# Altium schematic symbol library SCH_IntegratedCircuit.SchLib: 38 symbols
Pins are listed as number, name and electrical type; pins without a type are passive.

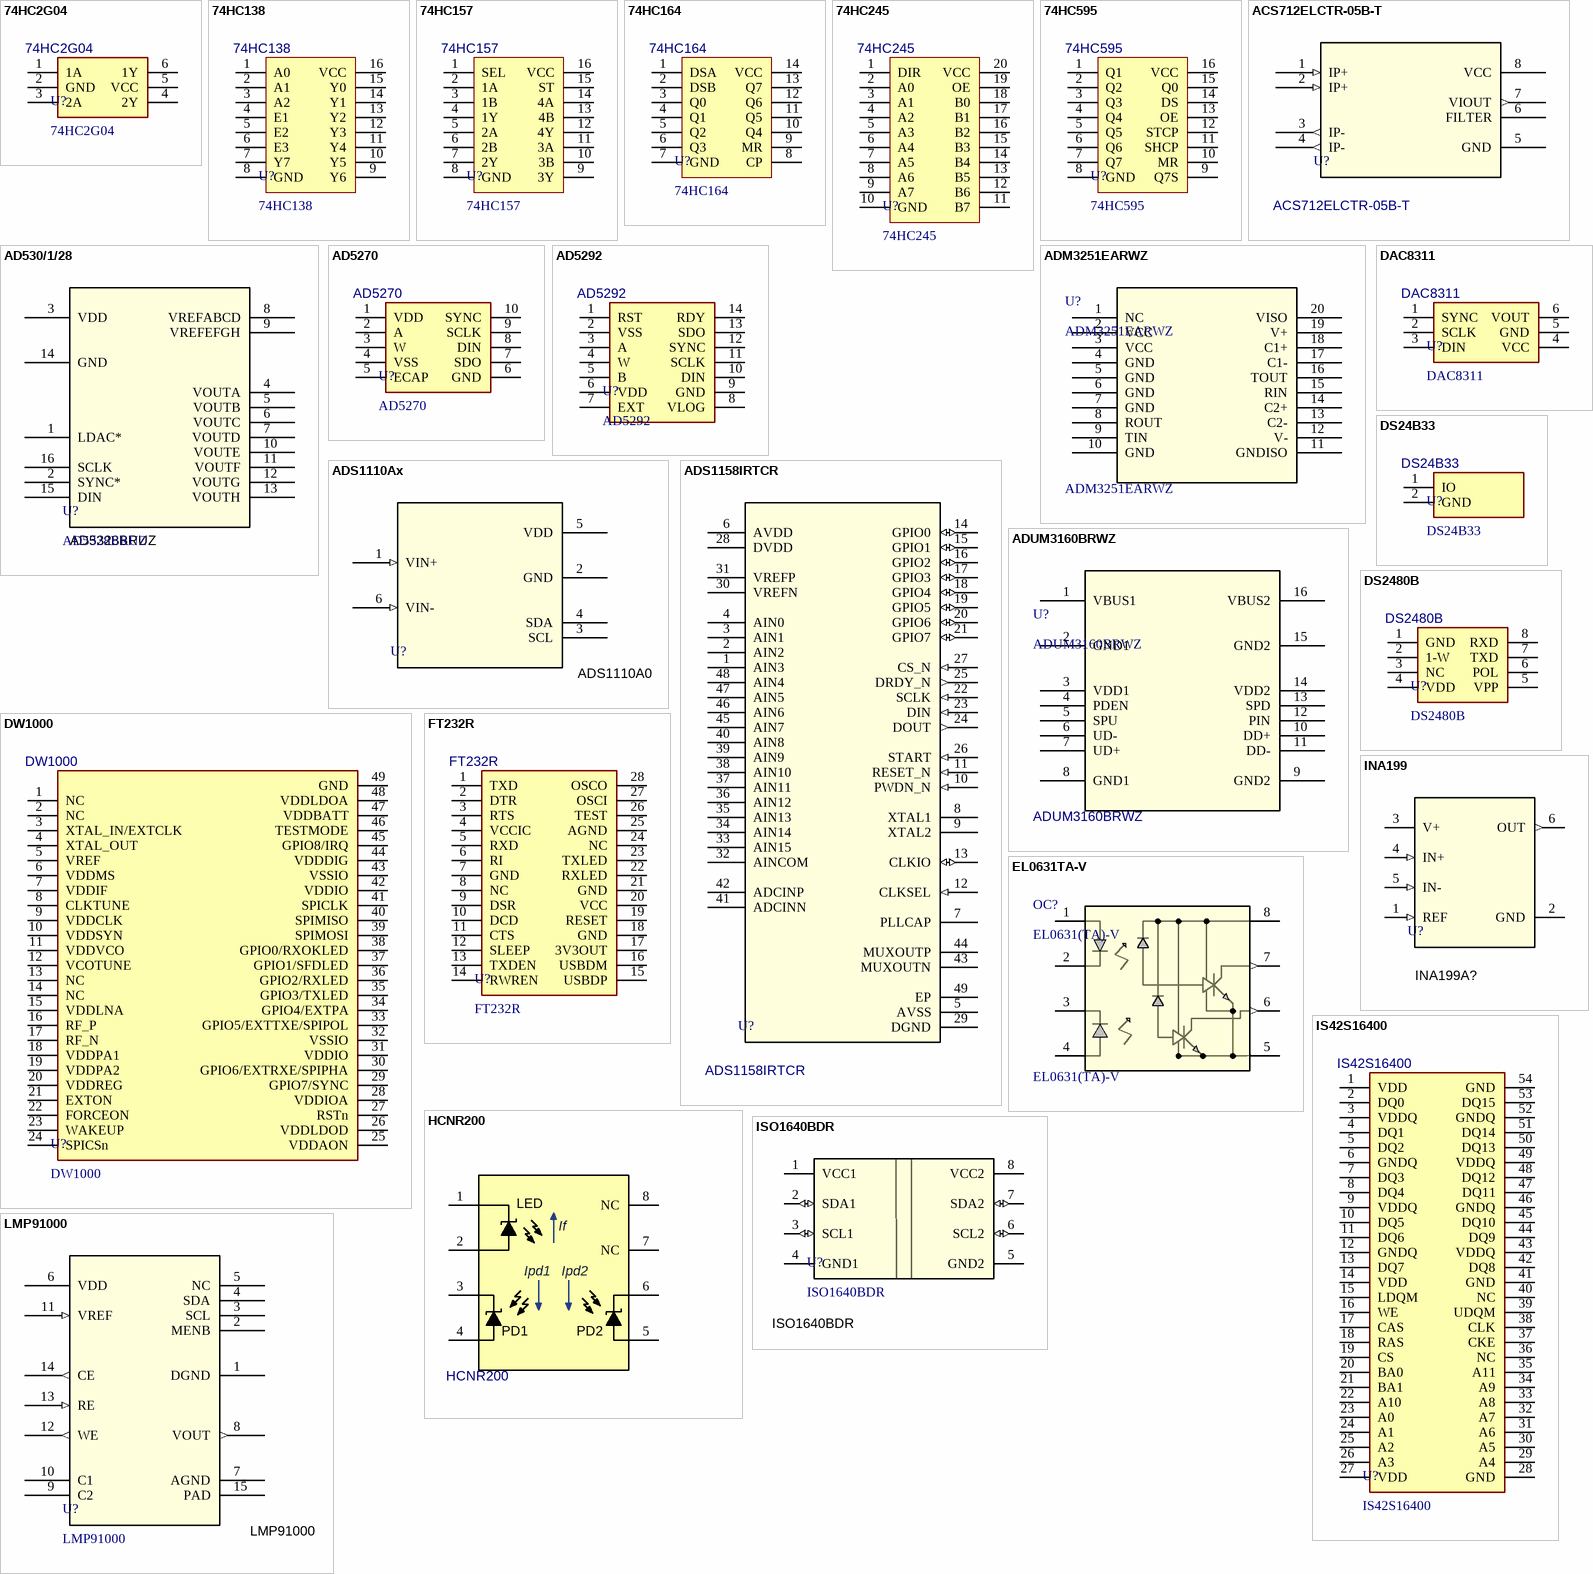
[diagram p0: symbols 74HC2G04 to LMP91000]

## 74HC2G04
designator U?
74 Series; Package: SOT363-6; PartNumber: 74HC2G04
footprint SOT363-6
pins: 1 1A, 2 GND, 3 2A, 4 2Y, 5 VCC, 6 1Y

## 74HC138
designator U?
74 Series; PartNumber: 74HC138
footprint SOP_E150_16
pins: 1 A0, 2 A1, 3 A2, 4 E1, 5 E2, 6 E3, 7 Y7, 8 GND, 9 Y6, 10 Y5, 11 Y4, 12 Y3, 13 Y2, 14 Y1, 15 Y0, 16 VCC

## 74HC157
designator U?
74 Series; PartNumber: 74HC157
footprint SOP_E150_16
pins: 1 SEL, 2 1A, 3 1B, 4 1Y, 5 2A, 6 2B, 7 2Y, 8 GND, 9 3Y, 10 3B, 11 3A, 12 4Y, 13 4B, 14 4A, 15 ST, 16 VCC

## 74HC164
designator U?
74 Series; PartNumber: 74HC164
footprint SOP_E150_14
pins: 1 DSA, 2 DSB, 3 Q0, 4 Q1, 5 Q2, 6 Q3, 7 GND, 8 CP, 9 MR, 10 Q4, 11 Q5, 12 Q6, 13 Q7, 14 VCC

## 74HC245
designator U?
74 Series; PartNumber: 74HC245
footprint SOP_E300_20
pins: 1 DIR, 2 A0, 3 A1, 4 A2, 5 A3, 6 A4, 7 A5, 8 A6, 9 A7, 10 GND, 11 B7, 12 B6, 13 B5, 14 B4, 15 B3, 16 B2, 17 B1, 18 B0, 19 OE, 20 VCC

## 74HC595
designator U?
74 Series; PartNumber: 74HC595
footprint SOP_E150_16
pins: 1 Q1, 2 Q2, 3 Q3, 4 Q4, 5 Q5, 6 Q6, 7 Q7, 8 GND, 9 Q7S, 10 MR, 11 SHCP, 12 STCP, 13 OE, 14 DS, 15 Q0, 16 VCC

## ACS712ELCTR-05B-T
designator U?
No Description Available; Mfr_Name: Allegro Microsystems Inc.; Package: SOIC8; PartNumber: ACS712ELCTR-05B-T
footprint SOP_E150_8
pins: 1 IP+ (in), 2 IP+ (in), 3 IP- (out), 4 IP- (out), 5 GND (power), 6 FILTER, 7 VIOUT (out), 8 VCC (power)

## AD530/1/28
designator U?, comment AD5328BRUZ
ADI DAC; Mfr_Name: Analog Devices Inc; Package: TSSOP-16; PartNumber: AD5328BRUZ
footprint TSSOP_E170_P0.65_16
pins: 1 LDAC*, 2 SYNC*, 3 VDD (power), 4 VOUTA, 5 VOUTB, 6 VOUTC, 7 VOUTD, 8 VREFABCD, 9 VREFEFGH, 10 VOUTE, 11 VOUTF, 12 VOUTG, 13 VOUTH, 14 GND, 15 DIN, 16 SCLK

## AD5270
designator U?
Digital Pot; PartNumber: AD5270
footprint MS5611
pins: 1 VDD, 2 A, 3 W, 4 VSS, 5 ECAP, 6 GND, 7 SDO, 8 DIN, 9 SCLK, 10 SYNC

## AD5292
designator U?
Digital Pot; PartNumber: AD5292
footprint TSSOP_E170_P0.65_14
pins: 1 RST, 2 VSS, 3 A, 4 W, 5 B, 6 VDD, 7 EXT, 8 VLOG, 9 GND, 10 DIN, 11 SCLK, 12 SYNC, 13 SDO, 14 RDY

## ADM3251EARWZ
designator U?
RS232 Isolator; Mfr_Name: Analog Devices Inc; Package: RW-20-ADI; PartNumber: ADM3251EARWZ
footprint RW_20_ADI
pins: 1 NC, 2 VCC, 3 VCC, 4 GND, 5 GND, 6 GND, 7 GND, 8 ROUT, 9 TIN, 10 GND, 11 GNDISO, 12 V-, 13 C2-, 14 C2+, 15 RIN, 16 TOUT, 17 C1-, 18 C1+, 19 V+, 20 VISO

## ADS1110Ax
designator U?, comment ADS1110A0
ADC; Mfr_Name: Texas Instruments; Package: SOT-23-6; PartNumber: ADS1110A0
footprint SOT23-6
pins: 1 VIN+ (in), 2 GND (power), 3 SCL, 4 SDA, 5 VDD (power), 6 VIN- (in)

## ADS1158IRTCR
designator U?
ADC; Mfr_Name: Texas Instruments; Package: RTC (S-PVQFN-N48); PartNumber: ADS1158IRTCR
footprint QFN_P0.5_48_EP_7X7
pins: 1 AIN3, 2 AIN2, 3 AIN1, 4 AIN0, 5 AVSS (power), 6 AVDD (power), 7 PLLCAP, 8 XTAL1, 9 XTAL2, 10 PWDN_N (in), 11 RESET_N (in), 12 CLKSEL (in), 13 CLKIO (io), 14 GPIO0 (io), 15 GPIO1 (io), 16 GPIO2 (io), 17 GPIO3 (io), 18 GPIO4 (io), 19 GPIO5 (io), 20 GPIO6 (io), 21 GPIO7 (io), 22 SCLK (in), 23 DIN (in), 24 DOUT (out), 25 DRDY_N (out), 26 START (in), 27 CS_N (in), 28 DVDD (power), 29 DGND (power), 30 VREFN, 31 VREFP, 32 AINCOM, 33 AIN15, 34 AIN14, 35 AIN13, 36 AIN12, 37 AIN11, 38 AIN10, 39 AIN9, 40 AIN8, 41 ADCINN, 42 ADCINP, 43 MUXOUTN, 44 MUXOUTP, 45 AIN7, 46 AIN6, 47 AIN5, 48 AIN4, 49 EP

## ADUM3160BRWZ
designator U?
USB隔离器; Mfr_Name: Analog Devices Inc; Package: RW_16_ADI; PartNumber: ADUM3160BRWZ
footprint RW_16_ADI-M
pins: 1 VBUS1, 2 GND1, 3 VDD1, 4 PDEN, 5 SPU, 6 UD-, 7 UD+, 8 GND1, 9 GND2, 10 DD+, 11 DD-, 12 PIN, 13 SPD, 14 VDD2, 15 GND2, 16 VBUS2

## DAC8311
designator U?
DAC; PartNumber: DAC8311
footprint SOT363-6
pins: 1 SYNC, 2 SCLK, 3 DIN, 4 VCC, 5 GND, 6 VOUT

## DS24B33
designator U?
EEPROM; PartNumber: DS24B33
footprint SFN_6x6_2
pins: 1 IO, 2 GND

## DS2480B
designator U?
Serial to 1-Wire; PartNumber: DS2480B
footprint SOP_E150_8
pins: 1 GND, 2 1-W, 3 NC, 4 VDD, 5 VPP, 6 POL, 7 TXD, 8 RXD

## DW1000
designator U?
UWB; Package: QFN48 P0.4; PartNumber: DW1000
footprint QFN_P0.4_48_DW1000
pins: 1 NC, 2 NC, 3 XTAL_IN/EXTCLK, 4 XTAL_OUT, 5 VREF, 6 VDDMS, 7 VDDIF, 8 CLKTUNE, 9 VDDCLK, 10 VDDSYN, 11 VDDVCO, 12 VCOTUNE, 13 NC, 14 NC, 15 VDDLNA, 16 RF_P, 17 RF_N, 18 VDDPA1, 19 VDDPA2, 20 VDDREG, 21 EXTON, 22 FORCEON, 23 WAKEUP, 24 SPICSn, 25 VDDAON, 26 VDDLDOD, 27 RSTn, 28 VDDIOA, 29 GPIO7/SYNC, 30 GPIO6/EXTRXE/SPIPHA, 31 VDDIO, 32 VSSIO, 33 GPIO5/EXTTXE/SPIPOL, 34 GPIO4/EXTPA, 35 GPIO3/TXLED, 36 GPIO2/RXLED, 37 GPIO1/SFDLED, 38 GPIO0/RXOKLED, 39 SPIMOSI, 40 SPIMISO, 41 SPICLK, 42 VDDIO, 43 VSSIO, 44 VDDDIG, 45 GPIO8/IRQ, 46 TESTMODE, 47 VDDBATT, 48 VDDLDOA, 49 GND

## EL0631TA-V
designator OC?, comment EL0631(TA)-V
Optical Coupler Logic Output x2; Mfr_Name: Everlight; Package: SOIC-8; PartNumber: EL0631(TA)-V
footprint SOP_E150_8
pins: 1, 2, 3, 4, 5 (power), 6 (out), 7 (out), 8 (power)

## FT232R
designator U?
USB2UART; PartNumber: FT232R
footprint SSOP_E210_P0.65_28
pins: 1 TXD, 2 DTR, 3 RTS, 4 VCCIC, 5 RXD, 6 RI, 7 GND, 8 NC, 9 DSR, 10 DCD, 11 CTS, 12 SLEEP, 13 TXDEN, 14 RWREN, 15 USBDP, 16 USBDM, 17 3V3OUT, 18 GND, 19 RESET, 20 VCC, 21 GND, 22 RXLED, 23 TXLED, 24 NC, 25 AGND, 26 TEST, 27 OSCI, 28 OSCO

## HCNR200
designator U?
高线性光耦; Mfr_Name: Mfr; Package: SOP-8-2.54mm; PartNumber: HCNR200
footprint SOP_P2.54mm_8
pins: 1, 2, 3, 4, 5, 6, 7 NC, 8 NC
text: LED; If; Ipd1; Ipd2; PD1; PD2

## INA199
designator U?, comment INA199A?
current-sense amplifier; Mfr_Name: Texas Instruments; Package: SOT-363(SC-70-6); PartNumber: INA199A?
footprint SOT363-6
pins: 1 REF (in), 2 GND (power), 3 V+ (power), 4 IN+ (in), 5 IN- (in), 6 OUT (out)

## IS42S16400
designator U?
SDRAM; PartNumber: IS42S16400
footprint TSOP_E400_P0.8_54
pins: 1 VDD, 2 DQ0, 3 VDDQ, 4 DQ1, 5 DQ2, 6 GNDQ, 7 DQ3, 8 DQ4, 9 VDDQ, 10 DQ5, 11 DQ6, 12 GNDQ, 13 DQ7, 14 VDD, 15 LDQM, 16 WE, 17 CAS, 18 RAS, 19 CS, 20 BA0, 21 BA1, 22 A10, 23 A0, 24 A1, 25 A2, 26 A3, 27 VDD, 28 GND, 29 A4, 30 A5, 31 A6, 32 A7, 33 A8, 34 A9, 35 A11, 36 NC, 37 CKE, 38 CLK, 39 UDQM, 40 NC, 41 GND, 42 DQ8, 43 VDDQ, 44 DQ9, 45 DQ10, 46 GNDQ, 47 DQ11, 48 DQ12, 49 VDDQ, 50 DQ13, 51 DQ14, 52 GNDQ, 53 DQ15, 54 GND

## ISO1640BDR
designator U?
I2C Isolator; Mfr_Name: Texas Instruments; Package: SOIC-8; PartNumber: ISO1640BDR
footprint SOIC-8_150mil
pins: 1 VCC1 (power), 2 SDA1 (io), 3 SCL1 (io), 4 GND1 (power), 5 GND2 (power), 6 SCL2 (io), 7 SDA2 (io), 8 VCC2 (power)

## LMP91000
designator U?
EC Sensor AFE; Mfr_Name: Texas Instruments; Package: WSON-14; PartNumber: LMP91000
footprint WSON-14-EP(4x4)
pins: 1 DGND (power), 2 MENB, 3 SCL, 4 SDA, 5 NC, 6 VDD (power), 7 AGND (power), 8 VOUT (out), 9 C2, 10 C1, 11 VREF (in), 12 WE (out), 13 RE (in), 14 CE (out), 15 PAD

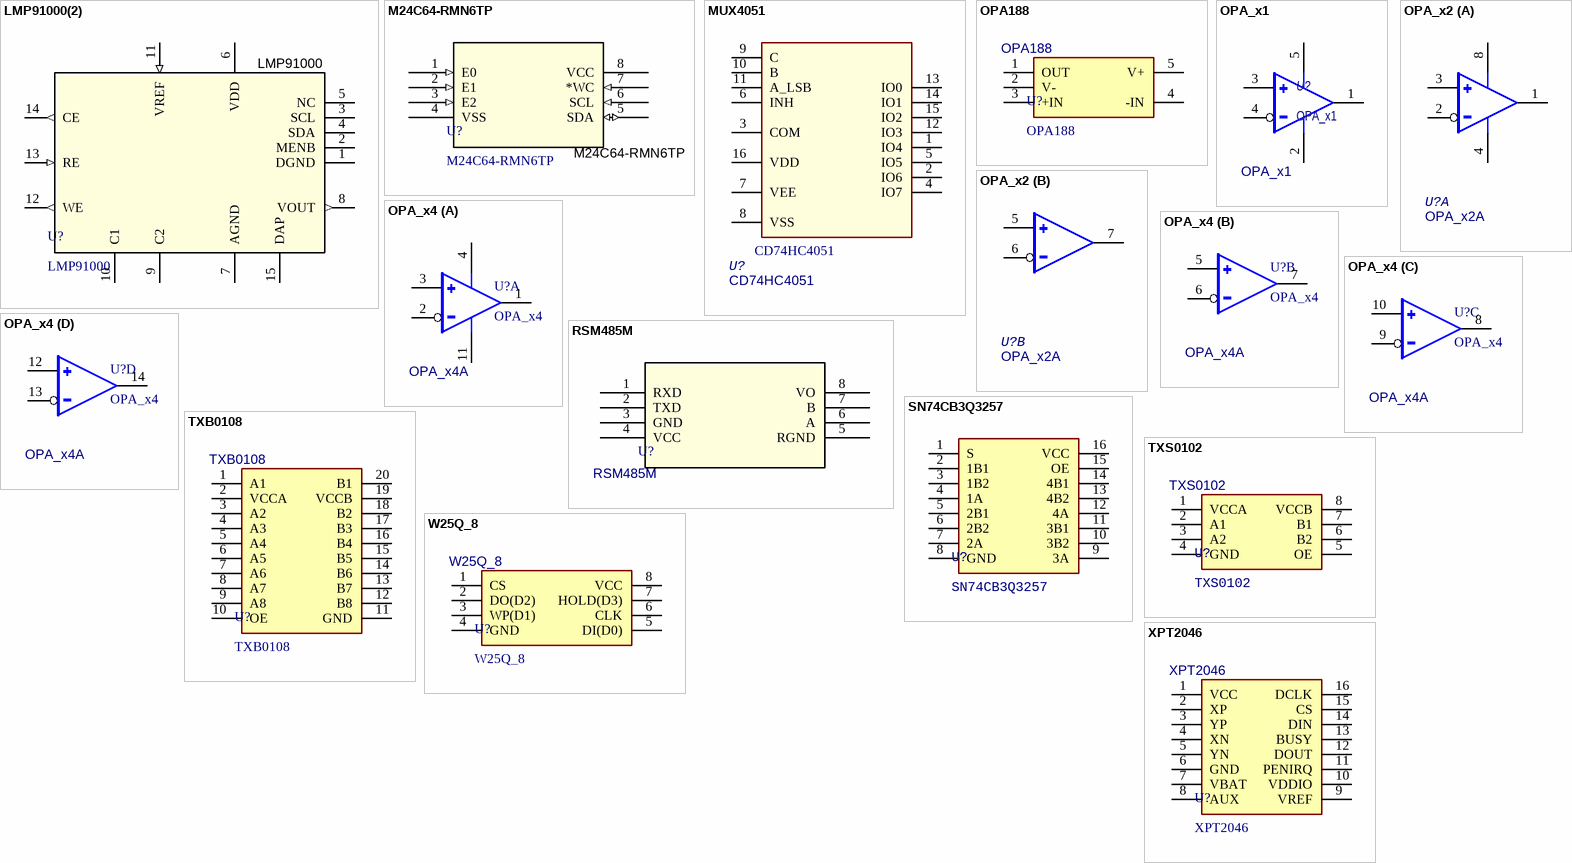
[diagram p1: symbols LMP91000(2) to XPT2046]

## LMP91000(2)
designator U?, comment LMP91000
AFE; Mfr_Name: Texas Instruments; Package: WSON-14-EP(4x4); PartNumber: LMP91000
footprint WSON-14-EP(4x4)
pins: 1 DGND (power), 2 MENB, 3 SCL, 4 SDA, 5 NC, 6 VDD (power), 7 AGND (power), 8 VOUT (out), 9 C2, 10 C1, 11 VREF (in), 12 WE (out), 13 RE (in), 14 CE (out), 15 DAP

## M24C64-RMN6TP
designator U?
EEPROM; Mfr_Name: STMicroelectronics; Package: SOIC8; PartNumber: M24C64-RMN6TP
footprint SOP_E150_8
pins: 1 E0 (in), 2 E1 (in), 3 E2 (in), 4 VSS (power), 5 SDA (io), 6 SCL (in), 7 *WC (in), 8 VCC (power)

## MUX4051
designator U?, comment CD74HC4051
模拟开关; Package: TSSOP-16; PartNumber: CD74HC4051
footprint TSSOP_E170_P0.65_16
pins: 1 IO4, 2 IO6, 3 COM, 4 IO7, 5 IO5, 6 INH, 7 VEE, 8 VSS, 9 C, 10 B, 11 A_LSB, 12 IO3, 13 IO0, 14 IO1, 15 IO2, 16 VDD

## OPA188
designator U?
OP; PartNumber: OPA188
footprint SOT23-5
pins: 1 OUT, 2 V-, 3 +IN, 4 -IN, 5 V+

## OPA_x1
designator U?
运算放大器; Mfr_Name: Mfr?; Package: SOT23-5; PartNumber: OPA_x1
footprint SOT23-5
pins: 1 OUT, 2 VS- (power), 3 IN+, 4 IN-, 5 VS+ (power)

## OPA_x2
designator U?  PartNumber: OPA_x2A  (hidden comment: OPA_x2)
运算放大器; Mfr_Name: Mfr?; Package: SOIC8
footprint SOP_E150_8
footprint MSOP_P0.65_8
part A pins: 1 OUT_A, 2 IN-_A, 3 IN+_A, 4 VS- (power), 8 VS+ (power)
part B pins: 5 IN+_B, 6 IN-_B, 7 OUT_B

## OPA_x4
designator U?  PartNumber: OPA_x4A
运算放大器; Mfr_Name: Mfr?; Package: PkgRef?
footprint TSSOP_E170_P0.65_14
part A pins: 1 OUT_A, 2 IN-_A, 3 IN+_A, 4 VS+ (power), 11 VS- (power)
part B pins: 5 IN+_B, 6 IN-_B, 7 OUT_B
part C pins: 8 OUT_C, 9 IN-_C, 10 IN+_C
part D pins: 12 IN+_D, 13 IN-_D, 14 OUT_D

## RSM485M
designator U?
RS485 Isolator; Mfr_Name: ZGL; Package: DIP-8; PartNumber: RSM485M
footprint DIP_2.54_8_RSM485M
pins: 1 RXD, 2 TXD, 3 GND, 4 VCC, 5 RGND, 6 A, 7 B, 8 VO

## SN74CB3Q3257
designator U?
Bus Switch; Package: TSSOP16 P0.65; PartNumber: SN74CB3Q3257
footprint TSSOP_E170_P0.65_16
pins: 1 S, 2 1B1, 3 1B2, 4 1A, 5 2B1, 6 2B2, 7 2A, 8 GND, 9 3A, 10 3B2, 11 3B1, 12 4A, 13 4B2, 14 4B1, 15 OE, 16 VCC

## TXB0108
designator U?
Voltage Level Translator; PartNumber: TXB0108
footprint TSSOP_E170_P0.65_20
pins: 1 A1, 2 VCCA, 3 A2, 4 A3, 5 A4, 6 A5, 7 A6, 8 A7, 9 A8, 10 OE, 11 GND, 12 B8, 13 B7, 14 B6, 15 B5, 16 B4, 17 B3, 18 B2, 19 VCCB, 20 B1

## TXS0102
designator U?
Voltage Level Translator; Package: SON8; PartNumber: TXS0102
footprint SON_P0.35_8 (SON, 8-Leads, Body 1.40x1.00mm, Pitch 0.35mm, IPC High Density)
pins: 1 VCCA, 2 A1, 3 A2, 4 GND, 5 OE, 6 B2, 7 B1, 8 VCCB

## W25Q_8
designator U?
FLASH; PartNumber: W25Q_8
footprint SOIC_E200_8
footprint SON_P1.27H_8 (SON, 8-Leads, Body 5.00x6.00mm, Pitch 1.27mm, Thermal Pad 3.40x4.30mm, IPC High Density)
pins: 1 CS, 2 DO(D2), 3 WP(D1), 4 GND, 5 DI(D0), 6 CLK, 7 HOLD(D3), 8 VCC

## XPT2046
designator U?
Touch; PartNumber: XPT2046
footprint TSSOP_E170_P0.65_16
pins: 1 VCC, 2 XP, 3 YP, 4 XN, 5 YN, 6 GND, 7 VBAT, 8 AUX, 9 VREF, 10 VDDIO, 11 PENIRQ, 12 DOUT, 13 BUSY, 14 DIN, 15 CS, 16 DCLK